# EAGLE library part LM75 (library CEPD_Devices)
LM75 - I2C Temperature Sensor Datasheet <http://www.ti.com/lit/ds/symlink/lm75b.pdf> Notes :
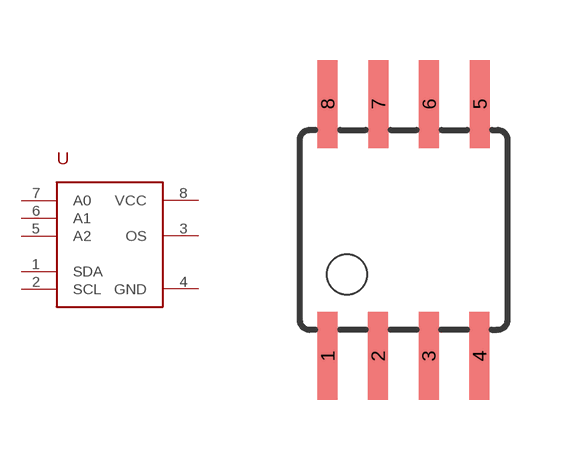
[diagram p0: symbol with the pads of SOIC8; footprint SOIC8]

Designator prefix -

## LM75SOIC8-PROD  [SOIC8]
1  SDA
2  SCL
3  OS
4  GND  pwr
5  A2
6  A1
7  A0
8  VCC  pwr

## Footprint SOIC8 (pad centres in mm)
smd 0.5 x 2.2: 1 -1.905,-3.154; 2 -0.645,-3.154; 3 0.625,-3.154; 4 1.895,-3.154; 5 1.905,3.154; 6 0.635,3.154; 7 -0.635,3.154; 8 -1.905,3.154